# EAGLE library part M93CX6 (library st)
serial access EEPROM M93C86, M93C76, M93C66, M93C56, M93C46 16Kbit, 8Kbit, 4Kbit, 2Kbit and 1Kbit (8 or 16bit wirde)
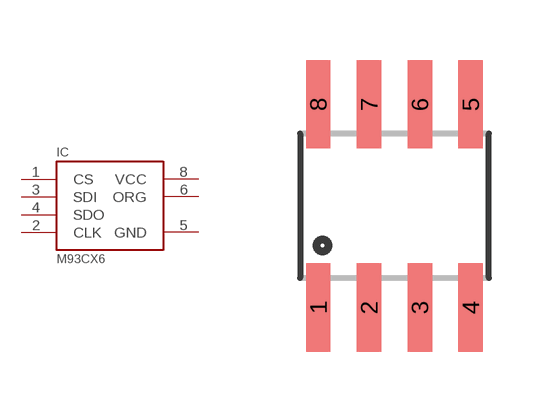
[diagram p0: symbol with the pads of SO08; footprint SO08]

Designator prefix IC

## M93CX6  [SO08]
1  CS  in
2  CLK
3  SDI  in
4  SDO  out
5  GND  sup
6  ORG  in
8  VCC  sup

## Footprint SO08 (pad centres in mm)
Small Outline Package Fits JEDEC packages (narrow SOIC-8)
smd 0.61 x 2.21: 1 -1.905,-2.54; 2 -0.635,-2.54; 3 0.635,-2.54; 4 1.905,-2.54; 5 1.905,2.54; 6 0.635,2.54; 7 -0.635,2.54; 8 -1.905,2.54